# Altium schematic symbol library Symbol_Vlad.SchLib: 330 symbols (part 3 of 3)
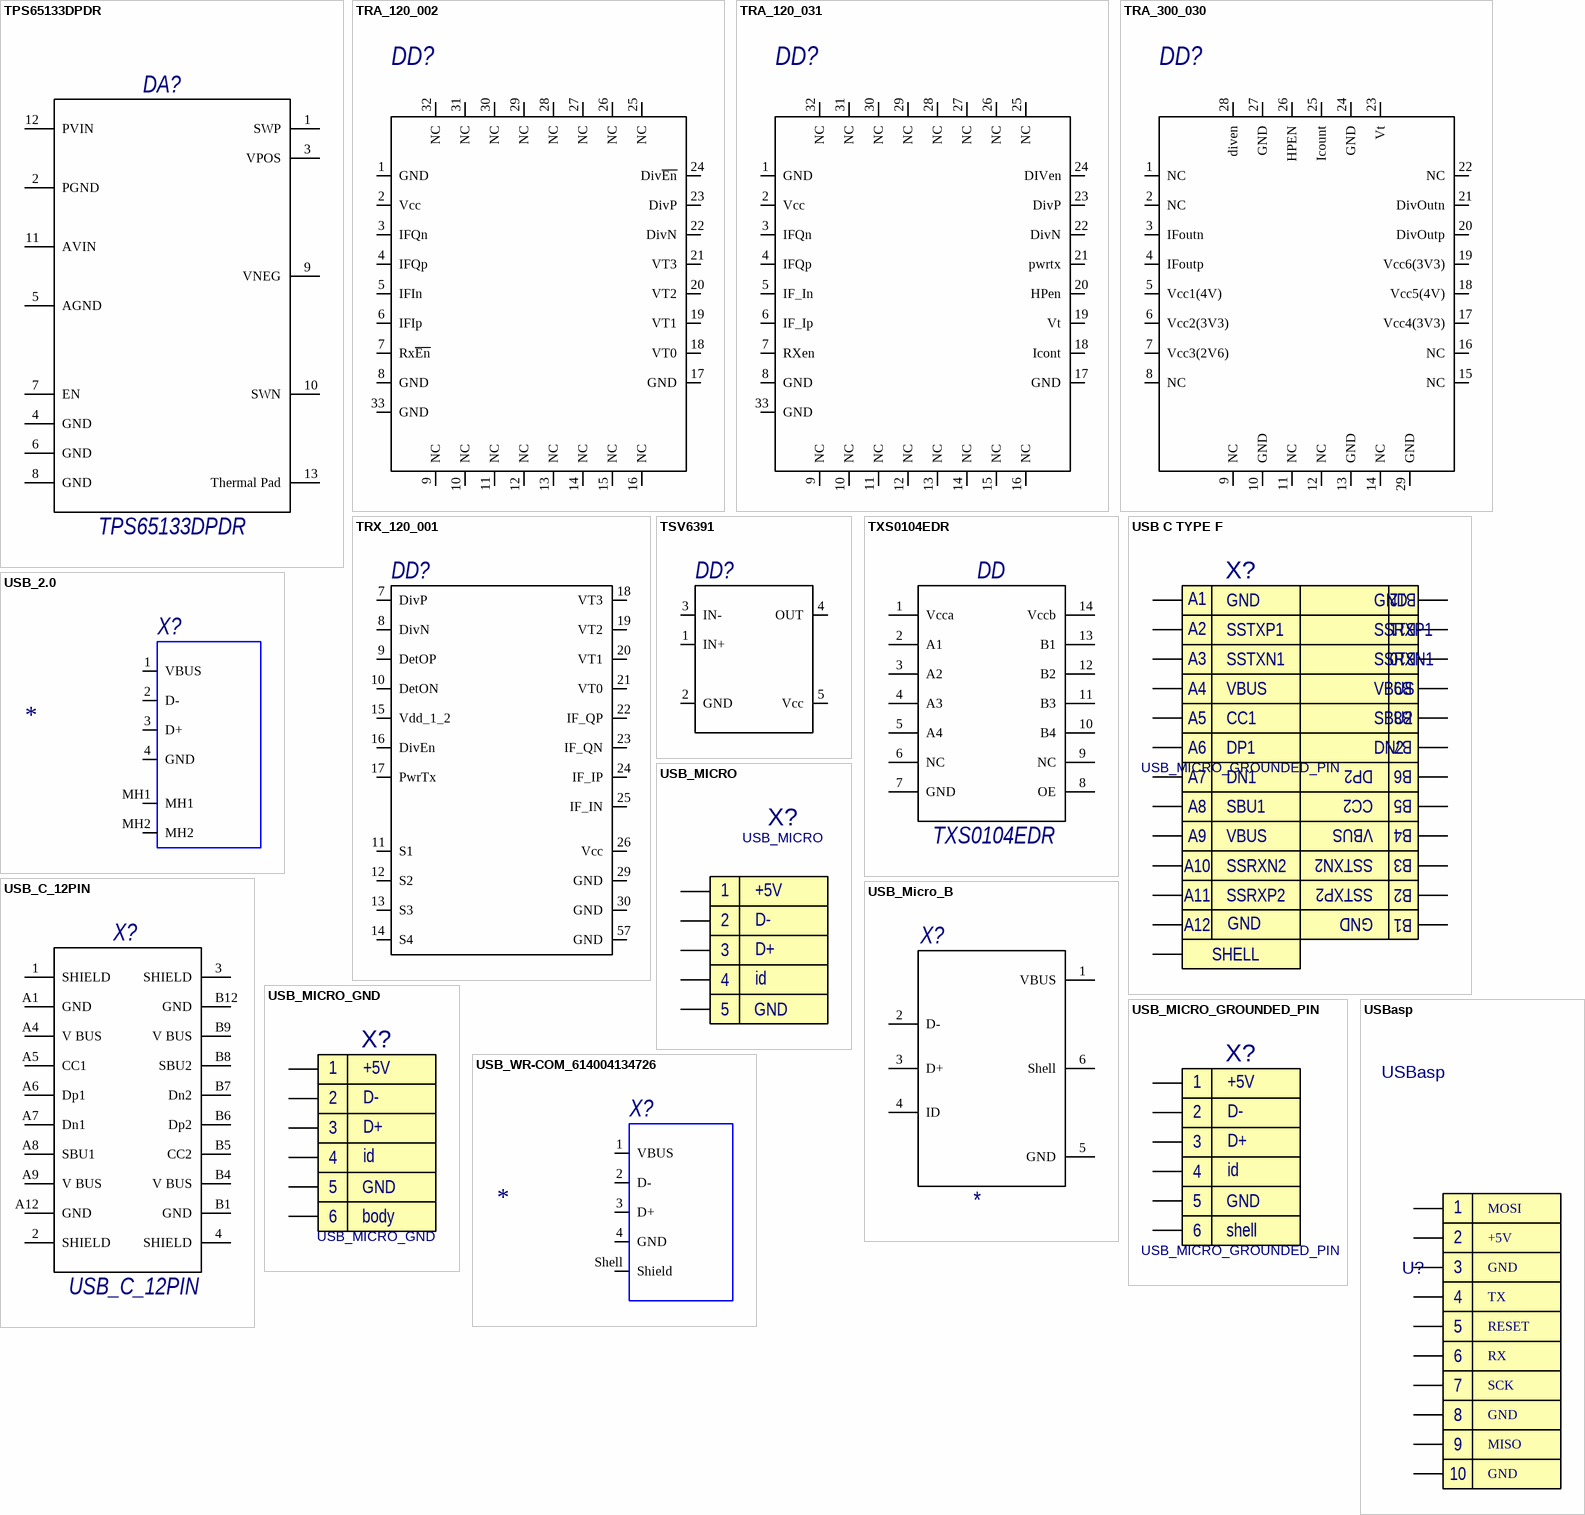
[diagram p31: symbols TPS65133DPDR to USBasp]

## TRA_120_002
designator DD?  (value not drawn)
pins: 1 GND, 2 Vcc, 3 IFQn, 4 IFQp, 5 IFIn, 6 IFIp, 7 Rx~{En}, 8 GND, 9 NC, 10 NC, 11 NC, 12 NC, 13 NC, 14 NC, 15 NC, 16 NC, 17 GND, 18 VT0, 19 VT1, 20 VT2, 21 VT3, 22 DivN, 23 DivP, 24 Div~{En}, 25 NC, 26 NC, 27 NC, 28 NC, 29 NC, 30 NC, 31 NC, 32 NC, 33 GND

## TRA_120_031
designator DD?  (value not drawn)
pins: 1 GND, 2 Vcc, 3 IFQn, 4 IFQp, 5 IF_In, 6 IF_Ip, 7 RXen, 8 GND, 9 NC, 10 NC, 11 NC, 12 NC, 13 NC, 14 NC, 15 NC, 16 NC, 17 GND, 18 Icont, 19 Vt, 20 HPen, 21 pwrtx, 22 DivN, 23 DivP, 24 DIVen, 25 NC, 26 NC, 27 NC, 28 NC, 29 NC, 30 NC, 31 NC, 32 NC, 33 GND

## TRA_300_030
designator DD?  (value not drawn)
pins: 1 NC, 2 NC, 3 IFoutn, 4 IFoutp, 5 Vcc1(4V), 6 Vcc2(3V3), 7 Vcc3(2V6), 8 NC, 9 NC, 10 GND, 11 NC, 12 NC, 13 GND, 14 NC, 15 NC, 16 NC, 17 Vcc4(3V3), 18 Vcc5(4V), 19 Vcc6(3V3), 20 DivOutp, 21 DivOutn, 22 NC, 23 Vt, 24 GND, 25 Icount, 26 HPEN, 27 GND, 28 diven, 29 GND

## TRX_120_001
designator DD?  (value not drawn)
pins: 7 DivP, 8 DivN, 9 DetOP, 10 DetON, 11 S1, 12 S2, 13 S3, 14 S4, 15 Vdd_1_2, 16 DivEn, 17 PwrTx, 18 VT3, 19 VT2, 20 VT1, 21 VT0, 22 IF_QP, 23 IF_QN, 24 IF_IP, 25 IF_IN, 26 Vcc, 29 GND, 30 GND, 57 GND

## TSV6391
designator DD?  (value not drawn)
pins: 1 IN+, 2 GND, 3 IN-, 4 OUT, 5 Vcc

## TXS0104EDR
designator DD
4-Bit Bidirectional Voltage-Level Translator for Open-Drain and Push-Pull Applications
footprint SOIC127P600X175-14N (SOIC, 14-Leads, Body 8,65x3,90mm, Pitch 1,27mm, IPC Medium Density)
pins: 1 Vcca, 2 A1, 3 A2, 4 A3, 5 A4, 6 NC, 7 GND, 8 OE, 9 NC, 10 B4, 11 B3, 12 B2, 13 B1, 14 Vccb

## USB C TYPE F
designator X?, comment USB_MICRO_GROUNDED_PIN
MntType: SMD; BOMDescription: SMD USB C TYPE F; MSL: MSL 1; RoHS: Comply; PartType: USB C TYPE F
footprint USB_C_F_TYPE SMT
pins: A1 1, A2 2, A3 3, A4 4, A5 5, A6 6, A7 1, A8 2, A9 3, A10 4, A11 5, A12 6, B1 1, B2 2, B3 3, B4 4, B5 5, B6 6, B7 1, B8 2, B9 3, B10 4, B11 5, B12 6, SHELL 6
text: GND; SSTXP1; SSRXP1; SSTXN1; SSRXN1; VBUS; CC1; SBU2; DP1; DN2; DN1; DP2; SBU1; CC2; SSRXN2; SSTXN2; SSRXP2; SSTXP2

## USB_2.0
designator X?
pins: 1 VBUS, 2 D-, 3 D+, 4 GND, MH1, MH2

## USB_C_12PIN
designator X?
USB - Type C Female 12 SMD USB Connector RoHS
pins: 1 SHIELD, 2 SHIELD, 3 SHIELD, 4 SHIELD, A1 GND, A4 V BUS, A5 CC1, A6 Dp1, A7 Dn1, A8 SBU1, A9 V BUS, A12 GND, B1 GND, B4 V BUS, B5 CC2, B6 Dp2, B7 Dn2, B8 SBU2, B9 V BUS, B12 GND

## USB_MICRO
designator X?
MntType: SMD; BOMDescription: SMD MICRO USB CONNECTOR; MSL: MSL 1; RoHS: Comply; PartType: MICRO USB CONNECTOR
footprint USB_MICRO
pins: 1, 2, 3, 4, 5
text: +5V; D-; D+; id; GND

## USB_Micro_B
designator X?
USB 2.0 Micro-B Female Connector; Value: *
pins: 1 VBUS, 2 D-, 3 D+, 4 ID, 5 GND, 6 Shell

## USB_MICRO_GND
designator X?
MntType: SMD; BOMDescription: SMD MICRO USB CONNECTOR; MSL: MSL 1; RoHS: Comply; PartType: MICRO USB CONNECTOR
footprint USB_MICRO_GROUNDED
pins: 1, 2, 3, 4, 5, 6
text: +5V; D-; D+; id; GND; body

## USB_MICRO_GROUNDED_PIN
designator X?
MntType: SMD; BOMDescription: SMD MICRO USB CONNECTOR; MSL: MSL 1; RoHS: Comply; PartType: MICRO USB CONNECTOR
footprint USB_MICRO_GROUNDED_PIN
pins: 1, 2, 3, 4, 5, SHELL
text: +5V; D-; D+; id; GND; 6; shell

## USB_WR-COM_614004134726
designator X?
pins: 1 VBUS, 2 D-, 3 D+, 4 GND, Shell Shield

## USBasp
designator U?
MPN: USBasb_conn; MntType: DIP; BOMDescription: DIP CONNECTOR CONNPLS10     USBasb_conn; MSL: MSL 1; Package: CONNPLS10; RoHS: Comply; PartType: CONNECTOR; Pins: 10
footprint USBasp
pins: 1, 2, 3, 4, 5, 6, 7, 8, 9, 10
text: MOSI; +5V; GND; TX; RESET; RX; SCK; MISO

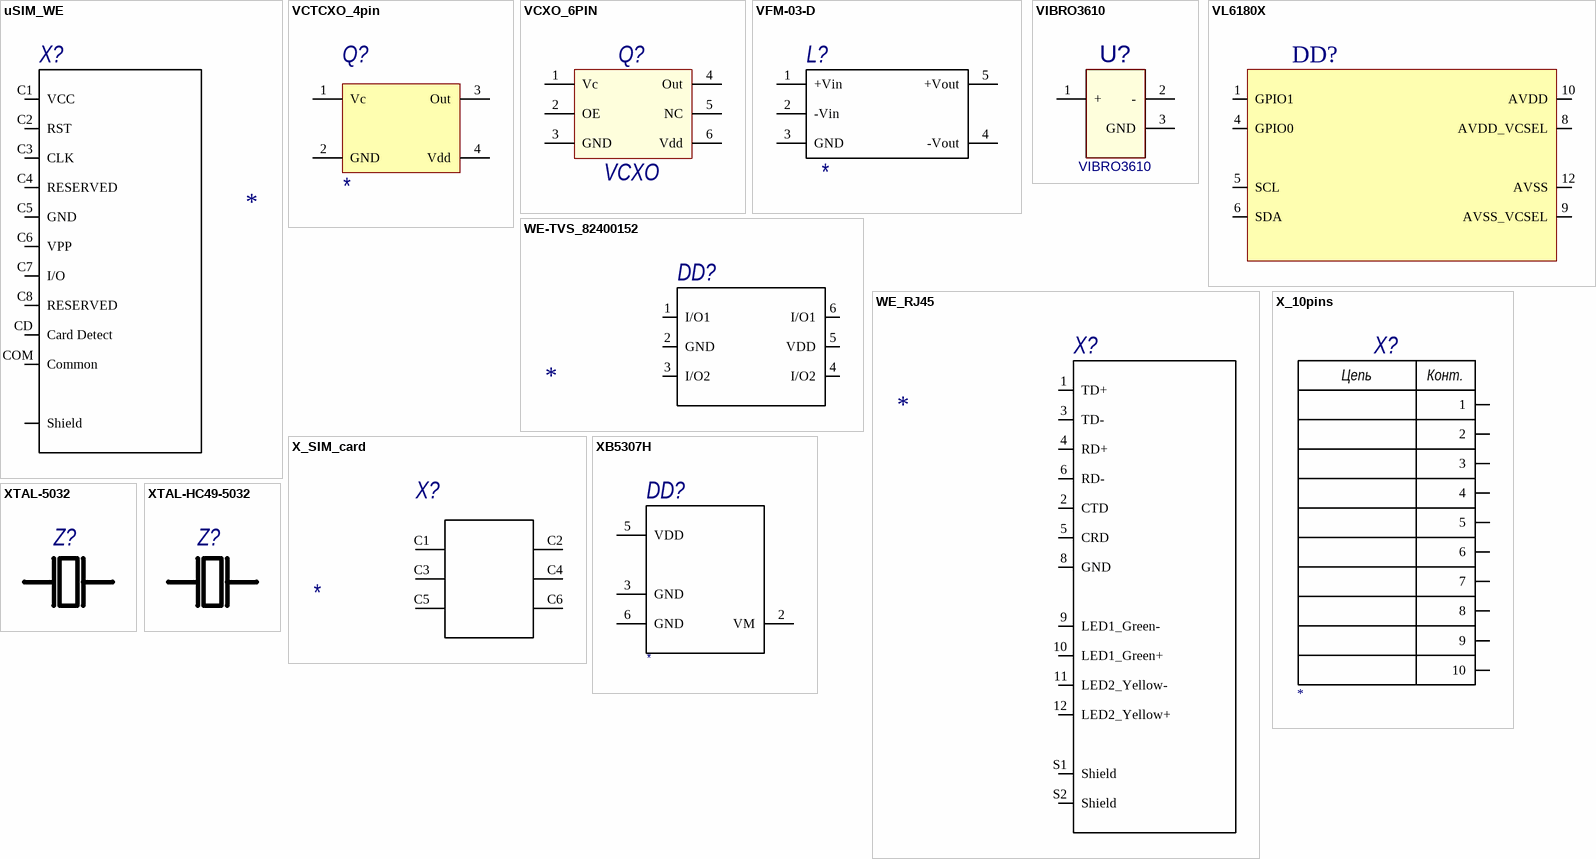
[diagram p29: symbols uSIM_WE to XTAL-HC49-5032]

## uSIM_WE
designator X?
pins: C1 VCC, C2 RST, C3 CLK, C4 RESERVED, C5 GND, C6 VPP, C7 I/O, C8 RESERVED, CD Card Detect, COM Common, Shield

## VCTCXO_4pin
designator Q?
pins: 1 Vc, 2 GND, 3 Out, 4 Vdd

## VCXO_6PIN
designator Q?, comment VCXO
pins: 1 Vc, 2 OE, 3 GND, 4 Out, 5 NC, 6 Vdd

## VFM-03-D
designator L?
Power Line Filters dc-dc filter, EMC 0~80 Vdc input, 3 A max input, dip; Datasheet: *; MPN: *
footprint VFM03D
pins: 1 +Vin, 2 -Vin, 3 GND, 4 -Vout, 5 +Vout

## VIBRO3610
designator U?
MntType: SMD; BOMDescription: SMD VIBROMOTOR VIBRO3610     VIBRO3610; MPN: VIBRO3610; MSL: MSL 1; Package: VIBRO3610; RoHS: Comply; PartType: VIBROMOTOR
footprint VIBRO3610
pins: 1 +, 2 -, 3 GND

## VL6180X
designator DD?  (value not drawn)
pins: 1 GPIO1, 4 GPIO0, 5 SCL (io), 6 SDA (io), 8 AVDD_VCSEL (power), 9 AVSS_VCSEL (power), 10 AVDD (power), 12 AVSS (power)

## WE-TVS_82400152
designator DD?
pins: 1 I/O1, 2 GND, 3 I/O2, 4 I/O2, 5 VDD, 6 I/O1

## WE_RJ45
designator X?
pins: 1 TD+, 2 CTD, 3 TD-, 4 RD+, 5 CRD, 6 RD-, 8 GND, 9 LED1_Green-, 10 LED1_Green+, 11 LED2_Yellow-, 12 LED2_Yellow+, S1 Shield, S2 Shield

## X_10pins
designator X?
MPN: *
pins: 1, 2, 3, 4, 5, 6, 7, 8, 9, 10
text: Цепь; Конт.

## X_SIM_card
designator X?
MPN: *
pins: C1 VCC (power), C2 RST, C3 CLK, C4 SHLD, C5 GND (power), C6 VPP (power)

## XB5307H
designator DD?
MPN: *
pins: 2 VM, 3 GND, 5 VDD, 6 GND

## XTAL-5032
designator Z?
MntType: SMD; BOMDescription: SMD XTAL; MSL: MSL 1; RoHS: Comply; PartType: XTAL
pins: 1, 2

## XTAL-HC49-5032
designator Z?
MntType: SMD; BOMDescription: SMD XTAL; MSL: MSL 1; RoHS: Comply; PartType: XTAL
pins: 1, 2